# Altium footprint library STGAP1AS.PcbLib: 1 footprints
Each footprint in its own frame and in the unit in brackets; x right, y up, seen from the top. Pads: shape width x height; smd on the part's side, far side on the other; paste and mask are expansions set on the pad; w line width, h text height; cw(c..) or ccw(c..) is an arc to the next point about the centre after c.
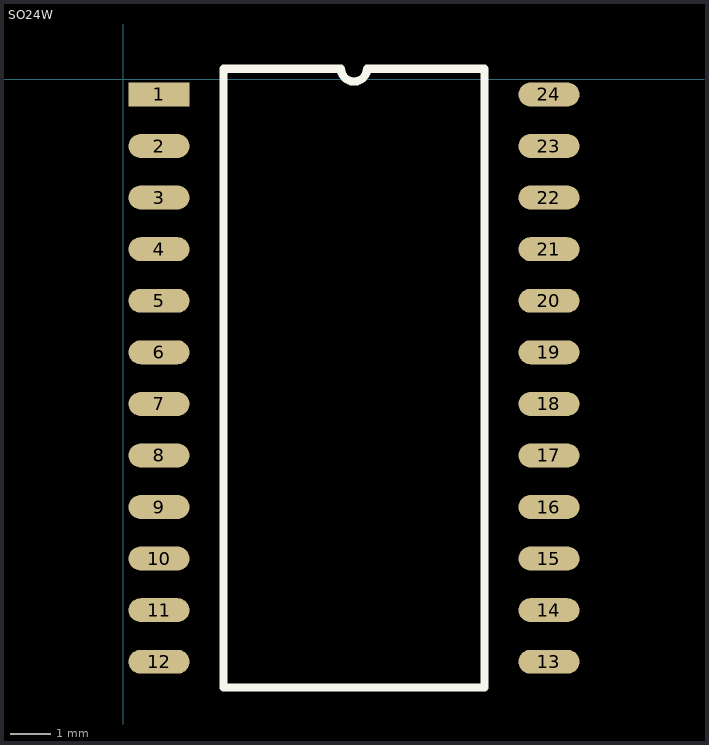
[diagram p0: the footprint, top view; thin cyan lines are the x and y axes]

## SO24W [mm]
pads (24):
  rect 1.5x0.59 smd: 1(0.889,-0.381)
  oval 1.5x0.59 smd: 2(0.889,-1.651) 3(0.889,-2.921) 4(0.889,-4.191) 5(0.889,-5.461) 6(0.889,-6.731) 7(0.889,-8.001) 8(0.889,-9.271) 9(0.889,-10.541) 10(0.889,-11.811) 11(0.889,-13.081) 12(0.889,-14.351) 13(10.489,-14.351) 14(10.489,-13.081) 15(10.489,-11.811) 16(10.489,-10.541) 17(10.489,-9.271) 18(10.489,-8.001) 19(10.489,-6.731) 20(10.489,-5.461) 21(10.489,-4.191) 22(10.489,-2.921) 23(10.489,-1.651) 24(10.489,-0.381)
Top Overlay:
  lines w0.2: 2.474,-14.986 2.474,0.254 5.372,0.254 ccw(c5.689,0.254) 6.007,0.254 8.904,0.254 8.904,-14.986 2.474,-14.986